# Altium footprint library Capasitors.PcbLib: 66 footprints (part 1 of 5)
Each footprint in its own frame and in the unit in brackets; x right, y up, seen from the top. Pads: shape width x height; smd on the part's side, far side on the other; paste and mask are expansions set on the pad; w line width, h text height; cw(c..) or ccw(c..) is an arc to the next point about the centre after c.
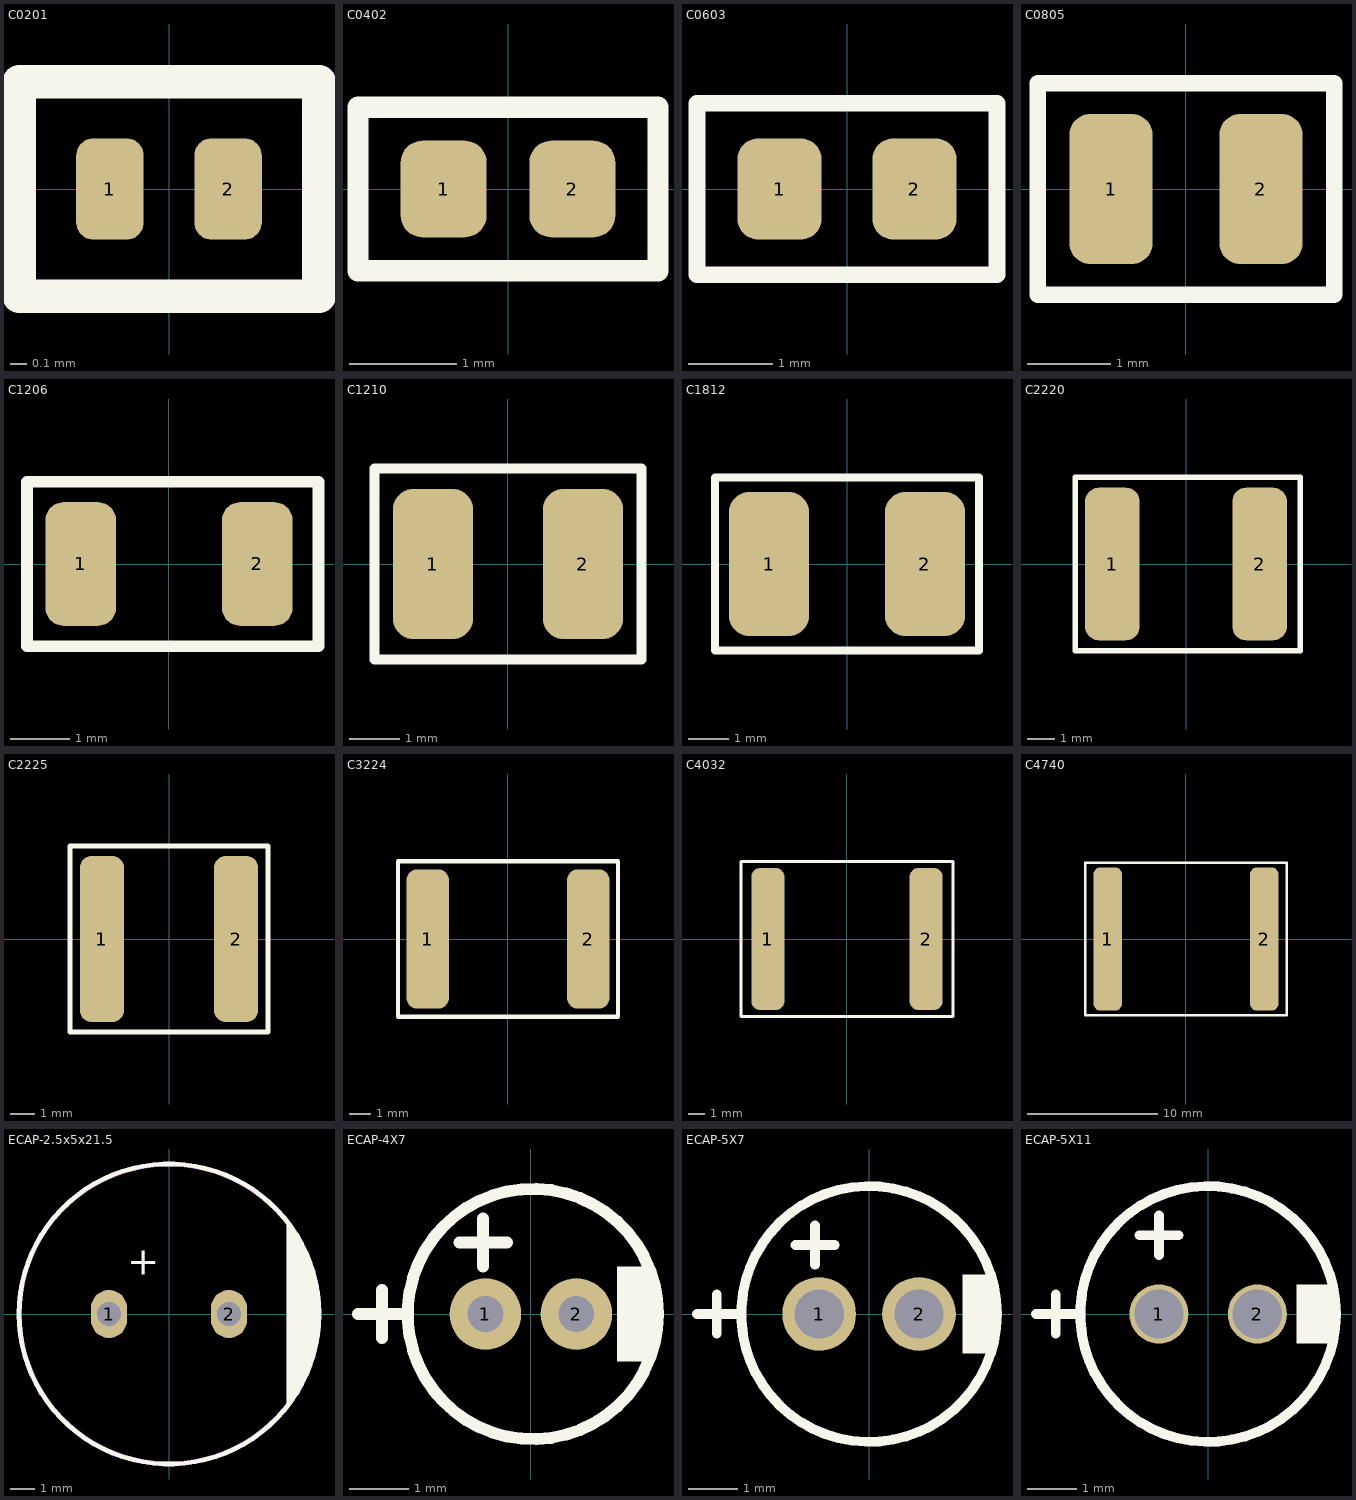
[diagram p0: the footprints below, top view; thin cyan lines are the x and y axes]

## C0201 [mm] "Масса 0,005г// LIV"
height 0.65
pads (2):
  rrect50% 0.4x0.6 smd: 1(-0.35,0) 2(0.35,0)
Top Overlay:
  lines w0.2: -0.889,-0.635 0.889,-0.635 0.889,0.635 -0.889,0.635 -0.889,-0.635
3D body "C0201.STEP": height 0.65, standoff 0, extent -0.3,-0.151 0.3,0.151

## C0402 [mm]
height 0.55
pads (2):
  rrect50% 0.8x0.9 smd: 1(-0.6,0) 2(0.6,0)
Top Overlay:
  lines w0.2: -1.397,-0.762 -1.397,0.762 1.397,0.762 1.397,-0.762 -1.397,-0.762
3D body "0402.STEP": height 0.55, standoff 0, extent -0.5,-0.251 0.5,0.251

## C0603 [mm] "Масса 0,03 г"
height 0.9
pads (2):
  rrect50% 1x1.2 smd: 1(-0.8,0) 2(0.8,0)
Top Overlay:
  lines w0.2: -1.778,-1.016 1.778,-1.016 1.778,1.016 -1.778,1.016 -1.778,-1.016
3D body "C0603.STEP": height 1.2, standoff 0, extent -0.8,-0.401 0.8,0.401

## C0805 [mm] "Высота 0,4...1,6 // Масса 0,006...0,05г // UMI"
height 1.6
pads (2):
  rrect50% 1x1.8 smd: 1(-0.9,0) 2(0.9,0)
Top Overlay:
  lines w0.2: -1.778,-1.27 -1.778,1.27 1.778,1.27 1.778,-1.27 -1.778,-1.27
3D body "C0805.STEP": height 1.6, standoff 0, extent -1,-0.626 1,0.626

## C1206 [mm] "Высота 0,4...1,9 // Масса 0,015...0,15г // UMI"
height 1.2
pads (2):
  rrect50% 1.2x2.1 smd: 1(-1.5,0) 2(1.5,0)
Top Overlay:
  lines w0.2: -2.413,-1.397 2.54,-1.397 2.54,1.397 -2.413,1.397 -2.413,-1.397
3D body "C1206.STEP": height 1.9, standoff 0, extent -1.6,-0.801 1.6,0.801

## C1210 [mm] "Высота 0,55...1,9 // Масса 0,023г // UMI"
height 1.9
pads (2):
  rrect50% 1.6x3 smd: 1(-1.5,0) 2(1.5,0)
Top Overlay:
  lines w0.2: -2.667,-1.905 2.667,-1.905 2.667,1.905 -2.667,1.905 -2.667,-1.905
3D body "C1210.STEP": height 2, standoff 0, extent -1.6,-1.251 1.6,1.251

## C1812 [mm] "Высота 0,6...3,2 // Масса 0,05...0,3г // UMI"
height 3.2
pads (2):
  rrect50% 2x3.6 smd: 1(-1.95,0) 2(1.95,0)
Top Overlay:
  lines w0.2: -3.302,-2.159 3.302,-2.159 3.302,2.159 -3.302,2.159 -3.302,-2.159
3D body "C1812.STEP": height 2.2, standoff 0, extent -2.25,-1.601 2.25,1.601

## C2220 [mm] "Масса 0,2 г // UMI"
height 1.7
pads (2):
  rrect50% 2x5.6 smd: 1(-2.7,0) 2(2.7,0)
Top Overlay:
  lines w0.2: -4.064,-3.175 4.191,-3.175 4.191,3.175 -4.064,3.175 -4.064,-3.175
3D body "C2220.STEP": height 2.5, standoff 0, extent -2.85,-2.501 2.85,2.501

## C2225 [mm]
height 2.5
pads (2):
  rrect50% 1.8x6.8 smd: 1(-2.75,0) 2(2.75,0)
Top Overlay:
  lines w0.2: -4.064,-3.81 4.064,-3.81 4.064,3.81 -4.064,3.81 -4.064,-3.81
3D body "CAP2225.stp": height 1.44, standoff -0.04, extent -2.86,-3.175 2.86,3.175

## C3224 [mm] "К10-67в // АЖЯР.673511.003 ТУ// Масса 1,5 г // DKS"
height 3
pads (2):
  rrect50% 2x6.6 smd: 1(-3.8,0) 2(3.8,0)
Top Overlay:
  lines w0.2: -5.207,-3.683 5.207,-3.683 5.207,3.683 -5.207,3.683 -5.207,-3.683
3D body "C3224.STEP": height 3, standoff 0, extent -4,-3.001 4,3.001

## C4032 [mm] "К10-67в // АЖЯР.673511.003 ТУ; DKS"
height 4
pads (2):
  rrect50% 2x8.6 smd: 1(-4.8,0) 2(4.8,0)
Top Overlay:
  lines w0.2: -6.425,-4.699 -6.425,4.699 6.425,4.699 6.425,-4.699 -6.425,-4.699
3D body "C4032.STEP": height 4, standoff 0, extent -5,-4.001 5,4.001

## C4740 [mm] "(10x12x2.5) // К10-79-100В-0,068…0,11 мкФ пФ±5% МП0 АЖЯР.673511.004 ТУ"
height 3.5
pads (2):
  rrect50% 2.2x11 smd: 1(-6,0) 2(6,0)
Top Overlay:
  lines w0.2: -7.725,-5.842 -7.725,5.842 7.725,5.842 7.725,-5.842 -7.725,-5.842
3D body "C4740.STEP": height 3.5, standoff 0, extent -6,-5.001 6,5.001

## ECAP-2.5x5x21.5 [mm] "12.5MM Diameter, 5MM Lead Spacing Aluminium Capacitor"
height 21.5
pads (2):
  oval 1.5x2 hole 1: 1(-2.5,0) 2(2.5,0)
Top Overlay:
  circle w0.2: c0,0 r6.25
  region: 5,-3.75 5,3.75 5.75,2.5 6.25,1 6.25,0 6,-1.5 5.75,-2.5
  lines w0.2: 5,-3.75 5,3.75
  text "+" at -1.75,1.25 h2
Mechanical 13:
  circle w0.2: c0,0 r6.241
  lines w0.2: 5,-3.75 5,3.75
3D body "CAP ALTH D-12.5MM L-5.0MM H-21.5MM.STEP": height 21.7, standoff -3, extent -6.25,-6.249 6.25,6.249

## ECAP-4X7 [mm] "Cap Elec, D4.0X7.0H pitch: 1.5mm"
height 7
pads (2):
  round 1.2 hole 0.6: 1(-0.762,0) 2(0.762,0)
Top Overlay:
  circle w0.2: c0.032,0 r2.1
  rectangle: 1.446,-0.8 2.046,0.8
  lines w0.2: -2.9,0 -2.1,0 ; -2.5,-0.4 -2.5,0.4 ; -1.2,1.2 -0.4,1.2 ; -0.8,0.8 -0.8,1.6
3D body "User Library-Cap electrolitic radial 4x7.STEP": height 1, standoff -7.5, extent -1.999,-1.999 1.999,1.999

## ECAP-5X7 [mm] "Cap Elec, D5.0X7.0H pitch: 2mm"
pads (2):
  round 1.5 hole 1: 1(-1.016,0) 2(1.016,0)
Top Overlay:
  circle w0.2: c0,0 r2.6
  rectangle: 1.9,-0.8 2.5,0.8
  lines w0.2: -3.5,0 -2.7,0 ; -3.1,-0.4 -3.1,0.4 ; -1.5,1.4 -0.7,1.4 ; -1.1,1 -1.1,1.8
3D body "User Library-Cap electro 5x7x2mm.step": height 7.33, standoff -3.47, extent -2.525,-2.525 2.525,2.526

## ECAP-5X11 [mm] "Cap Elec, D5.0X11.0H pitch: 2mm"
height 11
pads (2):
  round 1.2 / inner round 1.2 / far side oval 1.2x2 hole 1: 1(-1,0) 2(1,0)
Top Overlay:
  circle w0.2: c0,0 r2.6
  rectangle: 1.8,-0.6 2.6,0.6
  lines w0.2: -3.5,0 -2.7,0 ; -3.1,-0.4 -3.1,0.4 ; -1.4,1.6 -0.6,1.6 ; -1,1.2 -1,2
Top Courtyard:
  circle w0.2: c0,0 r2.6
3D body "User Library-Cap electro 5x11x2mm.step": height 2.67, standoff -12.13, extent -2.525,-2.525 2.525,2.525